# EAGLE library part SSM6N15AFU (library fab)
TOSHIBA Field Effect Transistor Silicon N Channel MOS Type (U-MOS III) SSM6N15AFU
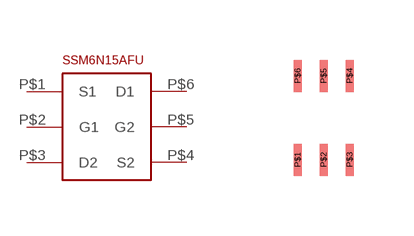
[diagram p17: symbol with the pads of SOT-363; footprint SOT-363]

Designator prefix -

## SSM6N15AFU  [SOT-363]
P$1  S1
P$2  G1
P$3  D2
P$4  S2
P$5  G2
P$6  D1

## Footprint SOT-363 (pad centres in mm)
SOT-363
smd 0.2 x 0.8: P$1 -0.65,-1.05; P$2 0,-1.05; P$3 0.65,-1.05; P$4 0.65,1.05; P$5 0,1.05; P$6 -0.65,1.05